# EAGLE library part PCIE-36-CONN (library WFR2020)
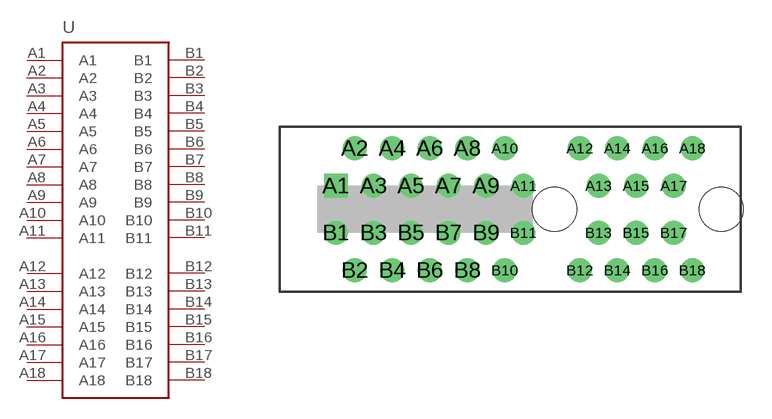
[diagram p13: symbol with the pads of PCI-E-36-CONN; footprint PCI-E-36-CONN]

Designator prefix -

## PCIE-36-CONN  [PCI-E-36-CONN]
A1  A1  pas
A2  A2  pas
A3  A3  pas
A4  A4  pas
A5  A5  pas
A6  A6  pas
A7  A7  pas
A8  A8  pas
A9  A9  pas
A10  A10  pas
A11  A11  pas
A12  A12  pas
A13  A13  pas
A14  A14  pas
A15  A15  pas
A16  A16  pas
A17  A17  pas
A18  A18  pas
B1  B1  pas
B2  B2  pas
B3  B3  pas
B4  B4  pas
B5  B5  pas
B6  B6  pas
B7  B7  pas
B8  B8  pas
B9  B9  pas
B10  B10  pas
B11  B11  pas
B12  B12  pas
B13  B13  pas
B14  B14  pas
B15  B15  pas
B16  B16  pas
B17  B17  pas
B18  B18  pas

## Footprint PCI-E-36-CONN (pad centres in mm)
Copy from con-pci_express(pci-e).lbr uploaded Mon Jul 2 10:15:25 2007 Library for PCI-Express x16 (PCI-E) connector. Includes connector and card edge pattern. Uploaded by JF Duval <jfduval@aqra.ca> from AQRA.ca
drill 0.7 pad 1.27 square: A1 3.18,5.31
drill 0.7 pad 1.27: A2 4.18,7.31; A3 5.18,5.31; A4 6.18,7.31; A5 7.18,5.31; A6 8.18,7.31; A7 9.18,5.31; A8 10.18,7.31; A9 11.18,5.31; A10 12.18,7.31; A11 13.18,5.31; A12 16.18,7.31; A13 17.18,5.31; A14 18.18,7.31; A15 19.18,5.31; A16 20.18,7.31; A17 21.18,5.31; A18 22.18,7.31; B1 3.18,2.81; B2 4.18,0.81; B3 5.18,2.81; B4 6.18,0.81; B5 7.18,2.81; B6 8.18,0.81; B7 9.18,2.81; B8 10.18,0.81; B9 11.18,2.81; B10 12.18,0.81; B11 13.18,2.81; B12 16.18,0.81; B13 17.18,2.81; B14 18.18,0.81; B15 19.18,2.81; B16 20.18,0.81; B17 21.18,2.81; B18 22.18,0.81
hole 2.35 at 14.83,4.06
hole 2.35 at 23.72,4.06